# Altium footprint library RESC4532X70N.PcbLib: 1 footprints
Each footprint in its own frame and in the unit in brackets; x right, y up, seen from the top. Pads: shape width x height; smd on the part's side, far side on the other; paste and mask are expansions set on the pad; w line width, h text height; cw(c..) or ccw(c..) is an arc to the next point about the centre after c.
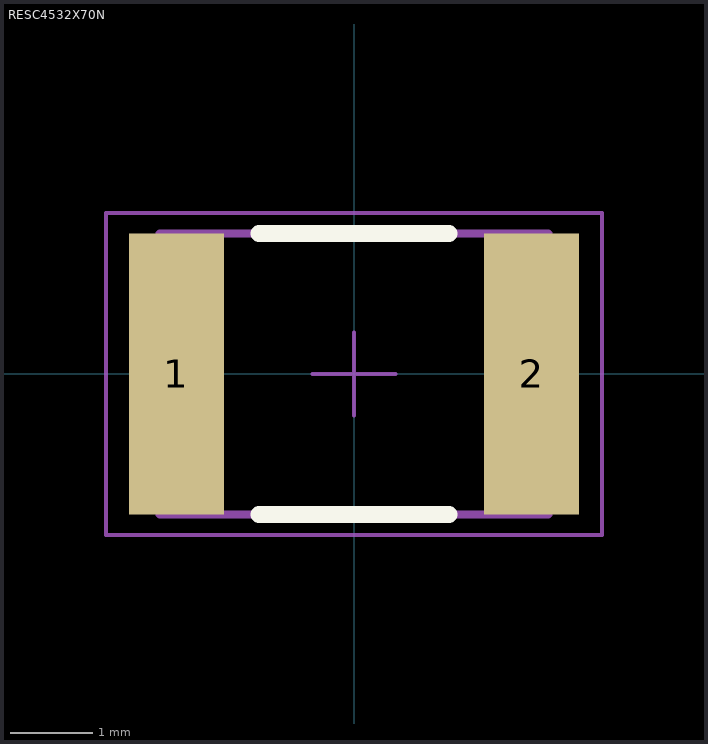
[diagram p0: the footprint, top view; thin cyan lines are the x and y axes]

## RESC4532X70N [mm] "Chip Resistor, EIA 1812, Metric 4532, 2-Leads, Body 4.5x3.2mm, IPC Medium Density"
height 0.7
pads (2):
  rect 1.15x3.4 smd: 1(-2.15,0) 2(2.15,0)
Top Overlay:
  lines w0.2: -1.15,-1.7 1.15,-1.7 ; -1.15,1.7 1.15,1.7
Mechanical 14:
  lines w0.1: -2.35,-1.7 2.35,-1.7 2.35,1.7 -2.35,1.7 -2.35,-1.7
Mechanical 15:
  lines w0.05: -0.5,0 0.5,0 ; 0,-0.5 0,0.5 ; -3,-1.95 3,-1.95 3,1.95 -3,1.95 -3,-1.95
3D body "RESC4532X70N.stp": height 0.7, standoff 0, extent -2.35,-1.7 2.35,1.7